# Altium footprint library SOT95P270X145-6N.PcbLib: 1 footprints
Each footprint in its own frame and in the unit in brackets; x right, y up, seen from the top. Pads: shape width x height; smd on the part's side, far side on the other; paste and mask are expansions set on the pad; w line width, h text height; cw(c..) or ccw(c..) is an arc to the next point about the centre after c.
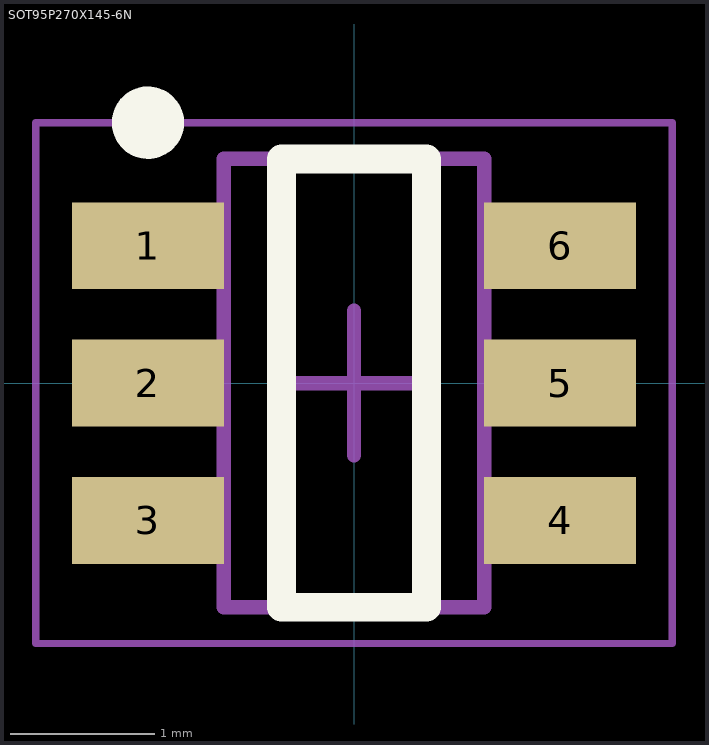
[diagram p0: the footprint, top view; thin cyan lines are the x and y axes]

## SOT95P270X145-6N [mm] "SOT23, 6-Leads, Body 2.90x2.70mm, Pitch 0.95mm, IPC Medium Density"
height 1.45
pads (6):
  rect 1.05x0.6 smd: 1(-1.425,0.95) 2(-1.425,0) 3(-1.425,-0.95) 4(1.425,-0.95) 5(1.425,0) 6(1.425,0.95)
Top Overlay:
  circle w0.25: c-1.425,1.8 r0.125
  lines w0.2: -0.5,-1.55 0.5,-1.55 0.5,1.55 -0.5,1.55 -0.5,-1.55
Mechanical 13:
  lines w0.1: -0.9,-1.55 -0.9,1.55 0.9,1.55 0.9,-1.55 -0.9,-1.55
Mechanical 15:
  lines w0.05: -2.2,-1.8 -2.2,1.8 2.2,1.8 2.2,-1.8 -2.2,-1.8
  lines w0.1: -0.5,0 0.5,0 ; 0,-0.5 0,0.5
3D body: height 1.45, standoff 0, extent -0.9,-1.55 0.9,1.55